# EAGLE library part MC0,5/6 (library con-phoenix-254)
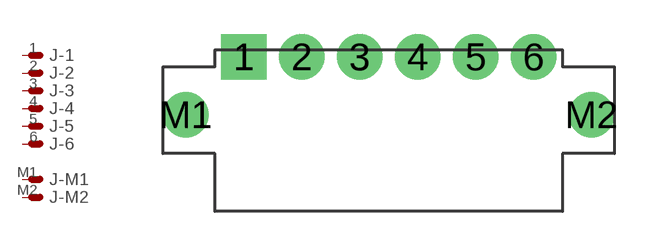
[diagram p1: symbol with the pads of MC0,5/6-G-2,54P20THR44-1821287; footprint MC0,5/6-G-2,54P20THR44-1821287]

Designator prefix J; gates -1=PIN -2=PIN -3=PIN -4=PIN -5=PIN -6=PIN -M1=PIN -M2=PIN

## MC0,5/6-G,254-1821287 (MATING: 1821135; MF: Phoenix; MPN: 1821287)  [MC0,5/6-G-2,54P20THR44-1821287]
1  -1:1  pas
2  -2:1  pas
3  -3:1  pas
4  -4:1  pas
5  -5:1  pas
6  -6:1  pas
M1  -M1:1  pas
M2  -M2:1  pas

## Footprint MC0,5/6-G-2,54P20THR44-1821287 (pad centres in mm)
drill 1.2 pad 2 square: 1 -6.35,3.23
drill 1.2 pad 2: 2 -3.81,3.23; 3 -1.27,3.23; 4 1.27,3.23; 5 3.81,3.23; 6 6.35,3.23; M1 -8.89,0.69; M2 8.89,0.69